# EAGLE library part ARD_PRO_MINI_CLONE_NOPROG (library TD-MySensors)
ABK Pro-Mini Arduino Clone
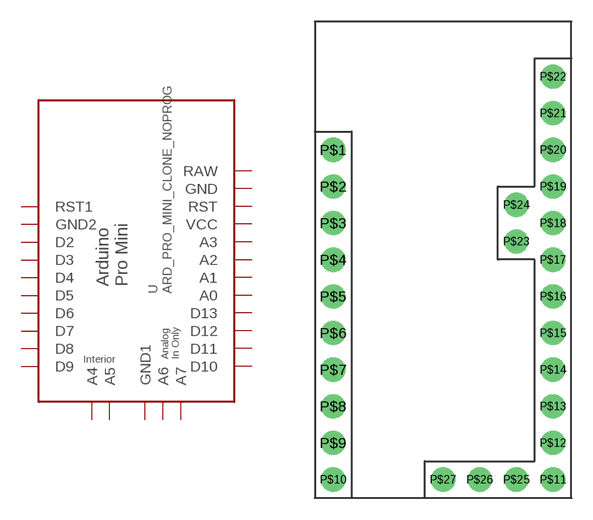
[diagram p16: symbol with the pads of PRO_MINI_CLONE_NO_PROG; footprint PRO_MINI_CLONE_NO_PROG]

Designator prefix U

## ARD_PRO_MINI_CLONE_NOPROG  [PRO_MINI_CLONE_NO_PROG]
P$1  RST1
P$2  GND2  pwr
P$3  D2
P$4  D3
P$5  D4
P$6  D5
P$7  D6
P$8  D7
P$9  D8
P$10  D9
P$11  D10
P$12  D11
P$13  D12
P$14  D13
P$15  A0
P$16  A1
P$17  A2
P$18  A3
P$19  VCC  pwr
P$20  RST
P$21  GND  pwr
P$22  RAW  pwr
P$23  A4
P$24  A5
P$25  A7
P$26  A6
P$27  GND1  pwr

## Footprint PRO_MINI_CLONE_NO_PROG (pad centres in mm)
drill 1.016 pad 1.676: P$1 0,22.86; P$2 0,20.32; P$3 0,17.78; P$4 0,15.24; P$5 0,12.7; P$6 0,10.16; P$7 0,7.62; P$8 0,5.08; P$9 0,2.54; P$10 0,0; P$11 15.24,0; P$12 15.24,2.54; P$13 15.24,5.08; P$14 15.24,7.62; P$15 15.24,10.16; P$16 15.24,12.7; P$17 15.24,15.24; P$18 15.24,17.78; P$19 15.24,20.32; P$20 15.24,22.86; P$21 15.24,25.4; P$22 15.24,27.94; P$23 12.7,16.51; P$24 12.7,19.05; P$25 12.7,0; P$26 10.16,0; P$27 7.62,0